# EAGLE library part LT3080EMS8EPBF (library LAB-PLR1010)
Adjustable1.1A Single Resistor Low Dropout Regulator
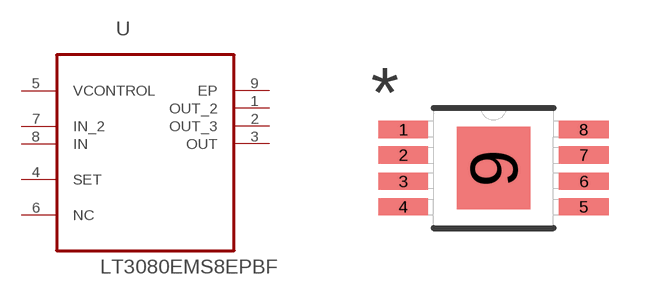
[diagram p0: symbol with the pads of SOP65P490X110-9N; footprint SOP65P490X110-9N]

Designator prefix U

## LT3080EMS8EPBF (MPN: LT3080EMS8E#PBF; OC_FARNELL: 1663552; OC_NEWARK: 75M4716; PACKAGE: MSOP-8; SUPPLIER: Linear Technology)  [SOP65P490X110-9N]
1  OUT_2  out
2  OUT_3  out
3  OUT  out
4  SET  in
5  VCONTROL  pwr
6  NC  nc
7  IN_2  in
8  IN  in
9  EP  out

## Footprint SOP65P490X110-9N (pad centres in mm)
smd 1.245 x 0.432: 1 -2.261,0.965; 2 -2.261,0.33; 3 -2.261,-0.33; 4 -2.261,-0.965; 5 2.261,-0.965; 6 2.261,-0.33; 7 2.261,0.33; 8 2.261,0.965
smd 1.829 x 2.057: 9 0,0